# EAGLE library part FLAT-FLEX-CONNECTOR-RA-30POS (library FlashPCB_Connectors)
FLAT-FLEX-CONNECTOR-RA-30POS - Flat Flex Connector 30 position Right Angle Technical Specifications: Number of Positions: 30 Contact: Top or Bottom Mount: Right Angle
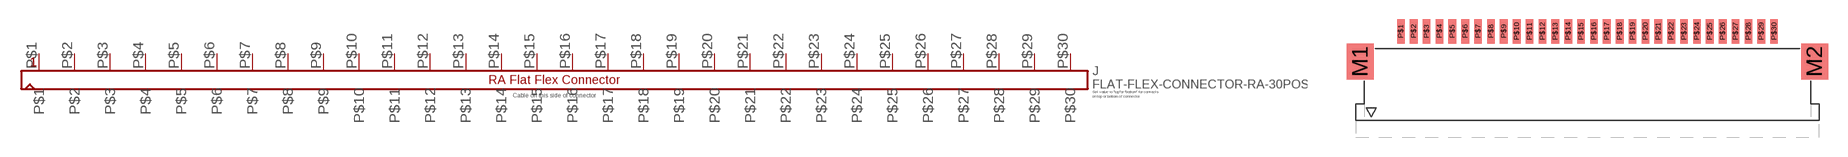
[diagram p119: symbol with the pads of FLAT-FLEX-CONNECTOR-MOLEX-522XX-RA-30POS; footprint FLAT-FLEX-CONNECTOR-MOLEX-522XX-RA-30POS]

Designator prefix J

## FLAT-FLEX-CONNECTOR-RA-30POS1MM-PITCH  [FLAT-FLEX-CONNECTOR-MOLEX-522XX-RA-30POS]
P$1  P$1
P$2  P$2
P$3  P$3
P$4  P$4
P$5  P$5
P$6  P$6
P$7  P$7
P$8  P$8
P$9  P$9
P$10  P$10
P$11  P$11
P$12  P$12
P$13  P$13
P$14  P$14
P$15  P$15
P$16  P$16
P$17  P$17
P$18  P$18
P$19  P$19
P$20  P$20
P$21  P$21
P$22  P$22
P$23  P$23
P$24  P$24
P$25  P$25
P$26  P$26
P$27  P$27
P$28  P$28
P$29  P$29
P$30  P$30

## Footprint FLAT-FLEX-CONNECTOR-MOLEX-522XX-RA-30POS (pad centres in mm)
smd 2.1 x 2.8: M1 -17.65,-1.4; M2 17.65,-1.4
smd 0.6 x 1.9: P$1 -14.5,0.95; P$2 -13.5,0.95; P$3 -12.5,0.95; P$4 -11.5,0.95; P$5 -10.5,0.95; P$6 -9.5,0.95; P$7 -8.5,0.95; P$8 -7.5,0.95; P$9 -6.5,0.95; P$10 -5.5,0.95; P$11 -4.5,0.95; P$12 -3.5,0.95; P$13 -2.5,0.95; P$14 -1.5,0.95; P$15 -0.5,0.95; P$16 0.5,0.95; P$17 1.5,0.95; P$18 2.5,0.95; P$19 3.5,0.95; P$20 4.5,0.95; P$21 5.5,0.95; P$22 6.5,0.95; P$23 7.5,0.95; P$24 8.5,0.95; P$25 9.5,0.95; P$26 10.5,0.95; P$27 11.5,0.95; P$28 12.5,0.95; P$29 13.5,0.95; P$30 14.5,0.95